# Altium footprint library INDUCTOR.PcbLib: 6 footprints
Each footprint in its own frame and in the unit in brackets; x right, y up, seen from the top. Pads: shape width x height; smd on the part's side, far side on the other; paste and mask are expansions set on the pad; w line width, h text height; cw(c..) or ccw(c..) is an arc to the next point about the centre after c.
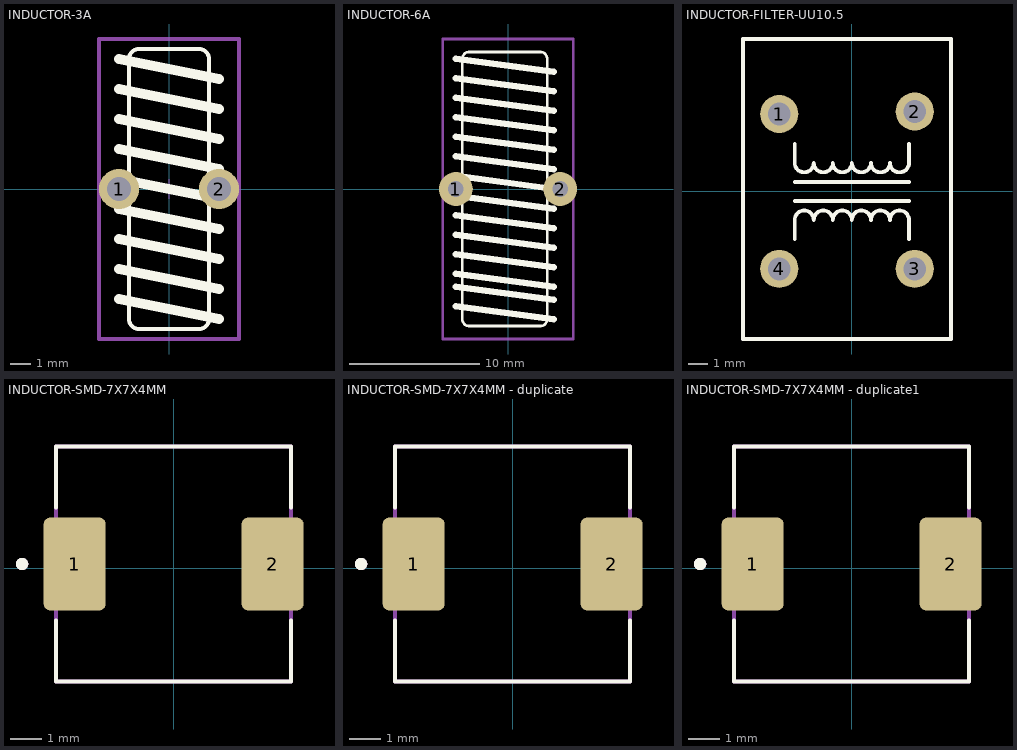
[diagram p0: the footprints below, top view; thin cyan lines are the x and y axes]

## INDUCTOR-3A [mm]
pads (2):
  round 2 hole 1.2 mask+0.075: 1(-2.5,0) 2(2.5,0)
Top Overlay:
  lines w0.2: -2,-6.5 ccw(c-1.5,-6.5) -1.5,-7 1.5,-7 ccw(c1.5,-6.5) 2,-6.5 2,-5 2,6.5 ccw(c1.5,6.5) 1.5,7 -1.5,7 ccw(c-1.5,6.5) -2,6.5 -2,-6.5
  lines w0.5: -2.5,-5.5 2.5,-6.5 ; -2.5,-4 2.5,-5 ; -2.5,-2.5 2.5,-3.5 ; -2.5,-1 2.5,-2 ; -2.5,0.5 2.5,-0.5 ; -2.5,2 2.5,1 ; -2.5,3.5 2.5,2.5 ; -2.5,5 2.5,4 ; -2.5,6.5 2.5,5.5
Mechanical 13:
  lines w0.2: -3.5,-7.5 -3.5,7.5 3.5,7.5 3.5,-7.5 -3.5,-7.5
Mechanical 15:
  lines w0.05: -0.5,0 0.5,0 ; 0,-0.5 0,0.5
3D body "L_Tor_13x8x5_3a.stp": height 14.18, standoff -2.6, extent -3.2,-7.184 3.2,7.185

## INDUCTOR-6A [mm]
pads (2):
  round 2.6 hole 1.2 mask+0.075: 1(-4,0) 2(4,0)
Top Overlay:
  lines w0.2: -3.5,-10 ccw(c-3,-10) -3,-10.5 2,-10.5 2.5,-10.5 ccw(c2.5,-10) 3,-10 3,10 ccw(c2.5,10) 2.5,10.5 -3,10.5 ccw(c-3,10) -3.5,10 -3.5,-10
  lines w0.5: -4,-9 3.5,-10 ; -4,-7.5 3.5,-8.5 ; -4,-6.5 3.5,-7.5 ; -4,-5 3.5,-6 ; -4,-3.5 3.5,-4.5 ; -4,-2 3.5,-3 ; -4,-0.5 3.5,-1.5 ; -4,1 3.5,0 ; -4,2.5 3.5,1.5 ; -4,4 3.5,3 ; -4,5.5 3.5,4.5 ; -4,7 3.5,6 ; -4,8.5 3.5,7.5 ; -4,10 3.5,9
Mechanical 13:
  lines w0.2: -5,-11.5 -5,11.5 5,11.5 5,-11.5 -5,-11.5
3D body "7447070.stp": height 22.01, standoff -14.89, extent -4.499,-11.209 4.499,11.209

## INDUCTOR-FILTER-UU10.5 [mm]
pads (4):
  round 2 hole 1.2 mask+0.075: 1(-3.81,4.064) 2(3.302,4.191) 3(3.302,-4.064) 4(-3.81,-4.064)
Top Overlay:
  lines w0.2: -3,-2.5 -3,-1.5 cw(c-2.5,-1.5) -2,-1.5 cw(c-1.5,-1.5) -1,-1.5 cw(c-0.5,-1.5) 0,-1.5 cw(c0.5,-1.5) 1,-1.5 cw(c1.5,-1.5) 2,-1.5 cw(c2.5,-1.5) 3,-1.5 3,-2.5 ; -3,-0.5 3,-0.5 ; -3,0.5 3,0.5 ; -3,2.5 -3,1.5 ccw(c-2.5,1.5) -2,1.5 ccw(c-1.5,1.5) -1,1.5 ccw(c-0.5,1.5) 0,1.5 ccw(c0.5,1.5) 1,1.5 ccw(c1.5,1.5) 2,1.5 ccw(c2.5,1.5) 3,1.5 3,2.5 ; -5.715,-7.747 5.207,-7.747 5.207,8.001 -5.715,8.001 -5.715,-7.747
Mechanical 13:
  lines w0.2: -5.715,-7.747 5.207,-7.747 5.207,8.001 -5.715,8.001 -5.715,-7.747
3D body "cuon loc 1a.STEP": height 15.95, standoff -3.8, extent -5.654,-7.673 5.146,7.927

## INDUCTOR-SMD-7X7X4MM [mm]
pads (2):
  rrect20% 2x3 smd: 1(-3.196,0.134) 2(3.204,0.134)
Top Overlay:
  circle w0.2: c-4.896,0.134 r0.1
  lines w0.127: -3.796,-1.686 -3.796,-3.666 3.804,-3.666 3.804,-1.686 ; -3.796,1.954 -3.796,3.934 3.804,3.934 3.804,1.954
Mechanical 13:
  circle w0.2: c-4.896,0.134 r0.1
  lines w0.127: -3.796,-3.666 3.804,-3.666 3.804,3.934 -3.796,3.934 -3.796,-3.666
3D body "Inductor.STEP": height 5, standoff 0, extent -3.825,-3.647 3.775,3.953

## INDUCTOR-SMD-7X7X4MM - duplicate [mm]
pads (2):
  rrect20% 2x3 smd: 1(-3.196,0.134) 2(3.204,0.134)
Top Overlay:
  circle w0.2: c-4.896,0.134 r0.1
  lines w0.127: -3.796,-1.686 -3.796,-3.666 3.804,-3.666 3.804,-1.686 ; -3.796,1.954 -3.796,3.934 3.804,3.934 3.804,1.954
Mechanical 13:
  circle w0.2: c-4.896,0.134 r0.1
  lines w0.127: -3.796,-3.666 -3.796,3.934 3.804,3.934 3.804,-3.666 -3.796,-3.666
3D body "CDRH127_470M.step": height 7.42, standoff 0.01, extent -7,-6.5 5,5.5

## INDUCTOR-SMD-7X7X4MM - duplicate1 [mm]
pads (2):
  rrect20% 2x3 smd: 1(-3.196,0.134) 2(3.204,0.134)
Top Overlay:
  circle w0.2: c-4.896,0.134 r0.1
  lines w0.127: -3.796,-1.686 -3.796,-3.666 3.804,-3.666 3.804,-1.686 ; -3.796,1.954 -3.796,3.934 3.804,3.934 3.804,1.954
Mechanical 13:
  circle w0.2: c-4.896,0.134 r0.1
  lines w0.127: -3.796,-3.666 -3.796,3.934 3.804,3.934 3.804,-3.666 -3.796,-3.666
3D body "COIL SFCB1280T.step": height 8, standoff 0, extent -6,-6.5 6,5.5